# EAGLE library part POCKET_BEAGLE (library ColorfulTunes)
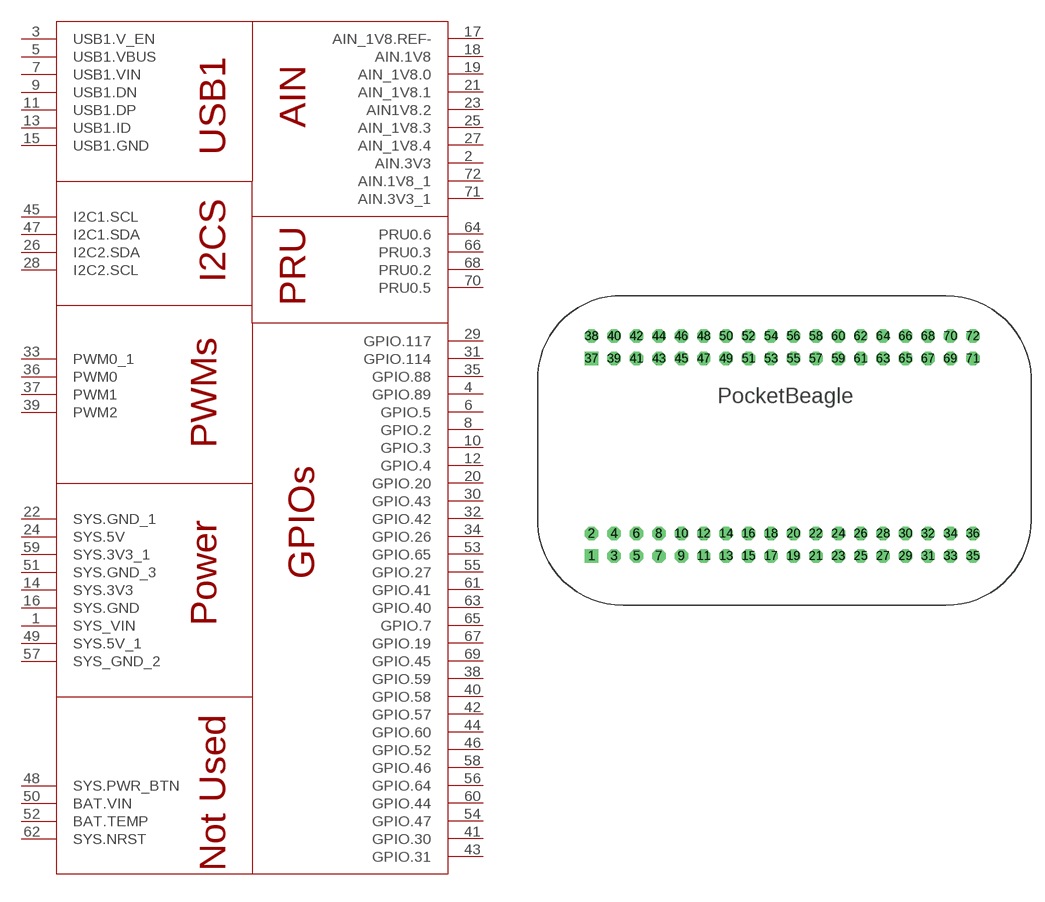
[diagram p0: symbol with the pads of POCKET_BEAGLE; footprint POCKET_BEAGLE]

Designator prefix -

## POCKET_BEAGLE  [POCKET_BEAGLE]
1  SYS_VIN  pwr
2  AIN.3V3  in
3  USB1.V_EN
4  GPIO.89
5  USB1.VBUS
6  GPIO.5
7  USB1.VIN
8  GPIO.2
9  USB1.DN
10  GPIO.3
11  USB1.DP
12  GPIO.4
13  USB1.ID
14  SYS.3V3
15  USB1.GND
16  SYS.GND
17  AIN_1V8.REF-  in
18  AIN.1V8  in
19  AIN_1V8.0  in
20  GPIO.20
21  AIN_1V8.1
22  SYS.GND_1  pwr
23  AIN1V8.2
24  SYS.5V  pwr
25  AIN_1V8.3
26  I2C2.SDA
27  AIN_1V8.4
28  I2C2.SCL
29  GPIO.117
30  GPIO.43
31  GPIO.114
32  GPIO.42
33  PWM0_1
34  GPIO.26
35  GPIO.88
36  PWM0
37  PWM1
38  GPIO.59
39  PWM2
40  GPIO.58
41  GPIO.30
42  GPIO.57
43  GPIO.31
44  GPIO.60
45  I2C1.SCL
46  GPIO.52
47  I2C1.SDA
48  SYS.PWR_BTN
49  SYS.5V_1  pwr
50  BAT.VIN
51  SYS.GND_3  pwr
52  BAT.TEMP
53  GPIO.65
54  GPIO.47
55  GPIO.27
56  GPIO.64
57  SYS_GND_2
58  GPIO.46
59  SYS.3V3_1  pwr
60  GPIO.44
61  GPIO.41
62  SYS.NRST
63  GPIO.40
64  PRU0.6
65  GPIO.7
66  PRU0.3
67  GPIO.19
68  PRU0.2
69  GPIO.45
70  PRU0.5
71  AIN.3V3_1
72  AIN.1V8_1

## Footprint POCKET_BEAGLE (pad centres in mm)
drill 0.889 pad 1.524 square: 1 6.096,5.588; 37 6.096,27.94
drill 0.889 pad 1.524 octagon: 2 6.096,8.128; 3 8.636,5.588; 4 8.636,8.128; 5 11.176,5.588; 6 11.176,8.128; 7 13.716,5.588; 8 13.716,8.128; 9 16.256,5.588; 10 16.256,8.128; 11 18.796,5.588; 12 18.796,8.128; 13 21.336,5.588; 14 21.336,8.128; 15 23.876,5.588; 16 23.876,8.128; 17 26.416,5.588; 18 26.416,8.128; 19 28.956,5.588; 20 28.956,8.128; 21 31.496,5.588; 22 31.496,8.128; 23 34.036,5.588; 24 34.036,8.128; 25 36.576,5.588; 26 36.576,8.128; 27 39.116,5.588; 28 39.116,8.128; 29 41.656,5.588; 30 41.656,8.128; 31 44.196,5.588; 32 44.196,8.128; 33 46.736,5.588; 34 46.736,8.128; 35 49.276,5.588; 36 49.276,8.128; 38 6.096,30.48; 39 8.636,27.94; 40 8.636,30.48; 41 11.176,27.94; 42 11.176,30.48; 43 13.716,27.94; 44 13.716,30.48; 45 16.256,27.94; 46 16.256,30.48; 47 18.796,27.94; 48 18.796,30.48; 49 21.336,27.94; 50 21.336,30.48; 51 23.876,27.94; 52 23.876,30.48; 53 26.416,27.94; 54 26.416,30.48; 55 28.956,27.94; 56 28.956,30.48; 57 31.496,27.94; 58 31.496,30.48; 59 34.036,27.94; 60 34.036,30.48; 61 36.576,27.94; 62 36.576,30.48; 63 39.116,27.94; 64 39.116,30.48; 65 41.656,27.94; 66 41.656,30.48; 67 44.196,27.94; 68 44.196,30.48; 69 46.736,27.94; 70 46.736,30.48; 71 49.276,27.94; 72 49.276,30.48